# Altium schematic symbol library 0805 15K.Schlib: 1 symbol
Pins are listed as number, name and electrical type; pins without a type are passive.

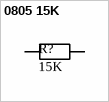
[diagram p0: symbol 0805 15K]

## 0805 15K
designator R?, comment value 15K  (hidden comment: Resistor)
15K ±1% 1/8W ±100ppm/°C 0805 Chip Resistor - Surface Mount RoHS; ComponentLink1Description: LCSC  - UNI-ROYAL(Uniroyal Elec) 0805W8F1502T5E; ComponentLink1URL: https://lcsc.com/product-detail/Chip-Resistor-Surface-Mount_UNI-ROYAL-Uniroyal-Elec-0805W8F1502T5E_C17475.html; LCSC Part #: C17475
footprint RES 0805_2012 (Chip Resistor, 2-Leads, Body 2.00x1.25mm, IPC Medium Density)
pins: 1, 2